# Altium schematic symbol library ESMIT-4180_A.SchLib: 1 symbol
Pins are listed as number, name and electrical type; pins without a type are passive.

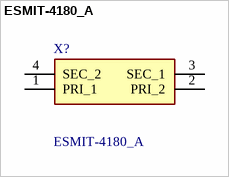
[diagram p0: symbol ESMIT-4180_A]

## ESMIT-4180_A
designator X?
Pulse Transformers; Manufacturer_Name: Sumida; Manufacturer_Part_Number: ESMIT-4180/A; Geometry.Height: 3.5mm; Mouser Part Number: 851-ESMIT-4180/A; Mouser Price/Stock: https://www.mouser.co.uk/ProductDetail/Sumida/ESMIT-4180-A?qs=Yx5fhyb%252BnH2J%2FiILZQpWMg%3D%3D; Datasheet Link: http://products.sumida.com/products/pdf/CBM5D33(ESMIT4180).pdf
footprint ESMIT4180A
pins: 1 PRI_1, 2 PRI_2, 3 SEC_1, 4 SEC_2